# Altium schematic symbol library Raspberry.SchLib: 1 symbol
Pins are listed as number, name and electrical type; pins without a type are passive.

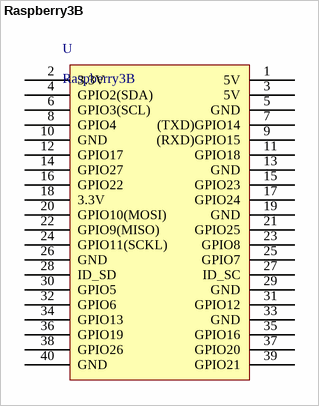
[diagram p0: symbol Raspberry3B]

## Raspberry3B
designator U
pins: 1 5V, 2 3.3V, 3 5V, 4 GPIO2(SDA), 5 GND, 6 GPIO3(SCL), 7 (TXD)GPIO14, 8 GPIO4, 9 (RXD)GPIO15, 10 GND, 11 GPIO18, 12 GPIO17, 13 GND, 14 GPIO27, 15 GPIO23, 16 GPIO22, 17 GPIO24, 18 3.3V, 19 GND, 20 GPIO10(MOSI), 21 GPIO25, 22 GPIO9(MISO), 23 GPIO8, 24 GPIO11(SCKL), 25 GPIO7, 26 GND, 27 ID_SC, 28 ID_SD, 29 GND, 30 GPIO5, 31 GPIO12, 32 GPIO6, 33 GND, 34 GPIO13, 35 GPIO16, 36 GPIO19, 37 GPIO20, 38 GPIO26, 39 GPIO21, 40 GND